# Altium footprint library PcbLib1.PcbLib: 5 footprints
Each footprint in its own frame and in the unit in brackets; x right, y up, seen from the top. Pads: shape width x height; smd on the part's side, far side on the other; paste and mask are expansions set on the pad; w line width, h text height; cw(c..) or ccw(c..) is an arc to the next point about the centre after c.
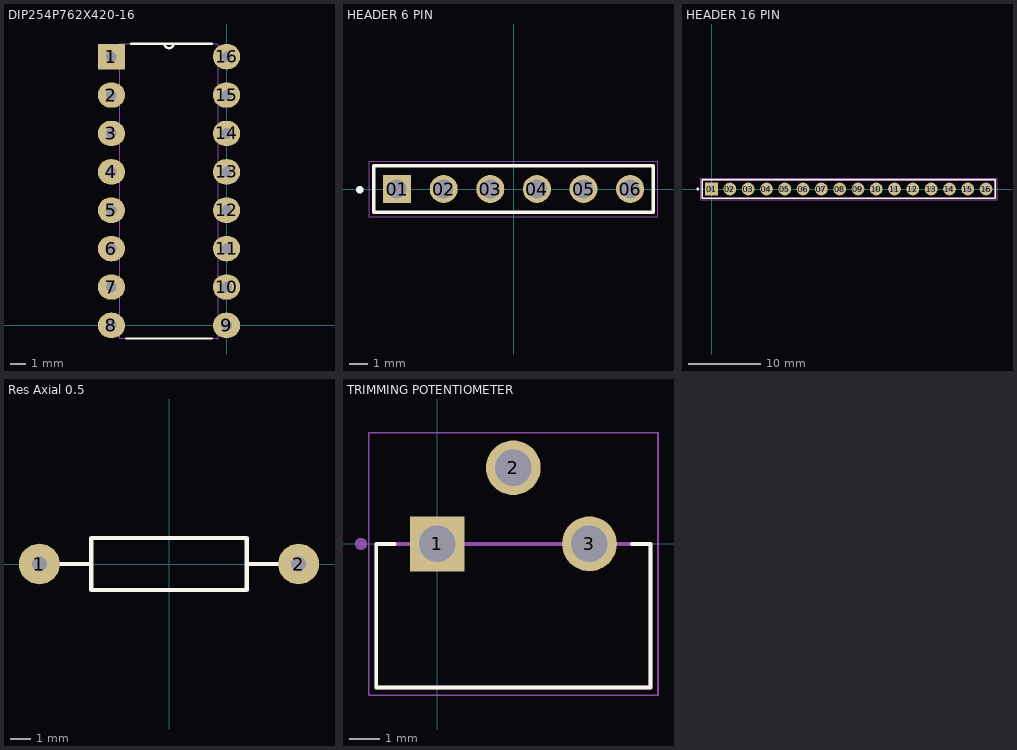
[diagram p0: the footprints below, top view; thin cyan lines are the x and y axes]

## DIP254P762X420-16 [mm]
pads (16):
  rect 1.8x1.676 hole 0.7: 1(-7.62,17.78)
  oval 1.8x1.676 hole 0.7: 2(-7.62,15.24) 3(-7.62,12.7) 4(-7.62,10.16) 5(-7.62,7.62) 6(-7.62,5.08) 7(-7.62,2.54) 8(-7.62,0) 9(0,0) 10(0,2.54) 11(0,5.08) 12(0,7.62) 13(0,10.16) 14(0,12.7) 15(0,15.24) 16(0,17.78)
Top Overlay:
  lines w0.152: -6.629,-0.864 -0.991,-0.864 ; -6.299,18.644 -4.115,18.644 ; -0.991,18.644 -3.505,18.644 ; -4.115,18.644 ccw(c-3.81,18.644) -3.505,18.644 ; -4.115,18.644 -3.505,18.644
Mechanical 13:
  lines w0: -4.115,18.644 ccw(c-3.81,18.644) -3.505,18.644 ; -4.115,18.644 -7.061,18.644 -7.061,-0.864 -0.559,-0.864 -0.559,18.644 -3.505,18.644 ; -4.115,18.644 -3.505,18.644 ; -8.179,-0.559 -7.061,-0.559 -7.061,0.559 -8.179,0.559 -8.179,-0.559 ; -8.179,1.981 -7.061,1.981 -7.061,3.099 -8.179,3.099 -8.179,1.981 ; -8.179,4.521 -7.061,4.521 -7.061,5.639 -8.179,5.639 -8.179,4.521 ; -8.179,7.061 -7.061,7.061 -7.061,8.179 -8.179,8.179 -8.179,7.061 ; -8.179,9.601 -7.061,9.601 -7.061,10.719 -8.179,10.719 -8.179,9.601 ; -8.179,12.141 -7.061,12.141 -7.061,13.259 -8.179,13.259 -8.179,12.141 ; -8.179,14.681 -7.061,14.681 -7.061,15.799 -8.179,15.799 -8.179,14.681 ; -8.179,17.221 -7.061,17.221 -7.061,18.339 -8.179,18.339 -8.179,17.221 ; -0.559,-0.559 0.559,-0.559 0.559,0.559 -0.559,0.559 -0.559,-0.559 ; -0.559,1.981 0.559,1.981 0.559,3.099 -0.559,3.099 -0.559,1.981 ; -0.559,4.521 0.559,4.521 0.559,5.639 -0.559,5.639 -0.559,4.521 ; -0.559,7.061 0.559,7.061 0.559,8.179 -0.559,8.179 -0.559,7.061 ; -0.559,9.601 0.559,9.601 0.559,10.719 -0.559,10.719 -0.559,9.601 ; -0.559,12.141 0.559,12.141 0.559,13.259 -0.559,13.259 -0.559,12.141 ; -0.559,14.681 0.559,14.681 0.559,15.799 -0.559,15.799 -0.559,14.681 ; -0.559,17.221 0.559,17.221 0.559,18.339 -0.559,18.339 -0.559,17.221
3D body "step_temp.STEP": height 4.2, standoff -3.32, extent -8.554,-0.623 0.889,18.403

## HEADER 6 PIN [mm]
height 8.58
pads (6):
  rect 1.53x1.53 / inner round 1.53 / far side rect 1.53x1.53 hole 1.02: 01(-6.35,0)
  round 1.53 hole 1.02: 02(-3.81,0) 03(-1.27,0) 04(1.27,0) 05(3.81,0) 06(6.35,0)
Top Overlay:
  circle w0.2: c-8.38,-0.04 r0.1
  lines w0.2: -7.62,-1.27 7.62,-1.27 7.62,1.27 -7.62,1.27 -7.62,-1.27
Mechanical 13:
  circle w0.2: c-8.38,-0.04 r0.1
  lines w0.1: -7.62,-1.27 7.62,-1.27 7.62,1.27 -7.62,1.27 -7.62,-1.27
Mechanical 15:
  lines w0.05: -7.87,-1.52 7.87,-1.52 7.87,1.52 -7.87,1.52 -7.87,-1.52
3D body "TSW-106-23-S-S.stp": height 8.38, standoff -2.92, extent -7.747,-1.27 7.62,1.27

## HEADER 16 PIN [mil]
pads (16):
  rect 70x70 hole 27.56: 01(0,0)
  round 70 hole 27.56: 02(100,0) 03(200,0) 04(300,0) 05(400,0) 06(500,0) 07(600,0) 08(700,0) 09(800,0) 10(900,0) 11(1000,0) 12(1100,0) 13(1200,0) 14(1300,0) 15(1400,0) 16(1500,0)
Top Overlay:
  circle w7.87: c-75.59,0 r3.94
  lines w7.87: -50,-50 -50,50 1550,50 1550,-50 -50,-50
Mechanical 13:
  circle w7.87: c-75.59,0 r3.94
  lines w3.94: -50,-50 -50,50 1550,50 1550,-50 -50,-50
Mechanical 15:
  lines w1.97: -59.84,-59.84 -59.84,59.84 1559.84,59.84 1559.84,-59.84 -59.84,-59.84
3D body "TSW-116-07-T-S-LL.stp": height 330, standoff -100, extent -52.5,-50 1552.5,50

## Res Axial 0.5 [mm] "Axial Device, Thru-Hole; 2 Leads; 0.5 in Pin Spacing"
height 2.54
pads (2):
  round 2 hole 0.75: 1(-6.35,0) 2(6.35,0)
Top Overlay:
  lines w0.2: -5.334,0 -3.81,0 ; 3.81,0 5.334,0 ; -3.81,-1.27 3.81,-1.27 3.81,1.27 -3.81,1.27 -3.81,-1.27
3D body "MFR-25FTE52-1R--3DModel-STEP-269445.STEP": height 2.59, standoff -23.7, extent -5.1,-1.25 5,1.35

## TRIMMING POTENTIOMETER [mm]
pads (3):
  rect 1.8x1.8 hole 1.2: 1(0,0)
  round 1.8 hole 1.2: 2(2.5,2.5) 3(5,0)
Top Overlay:
  lines w0.127: -1.4,0 -2,0 -2,-4.72 7,-4.72 7,0 6.4,0
Mechanical 13:
  circle w0.2: c-2.5,0 r0.1
  lines w0.127: -2,-4.72 -2,0 7,0 7,-4.72 -2,-4.72
Mechanical 15:
  lines w0.05: -2.25,-4.97 7.25,-4.97 7.25,3.65 -2.25,3.65 -2.25,-4.97
3D body "3309w-1-501.stp": height 10.49, standoff -5.99, extent -2.007,-4.526 6.985,3.556